# Altium schematic symbol library Brduino-Nano.SCHLIB: 29 symbols
Pins are listed as number, name and electrical type; pins without a type are passive.

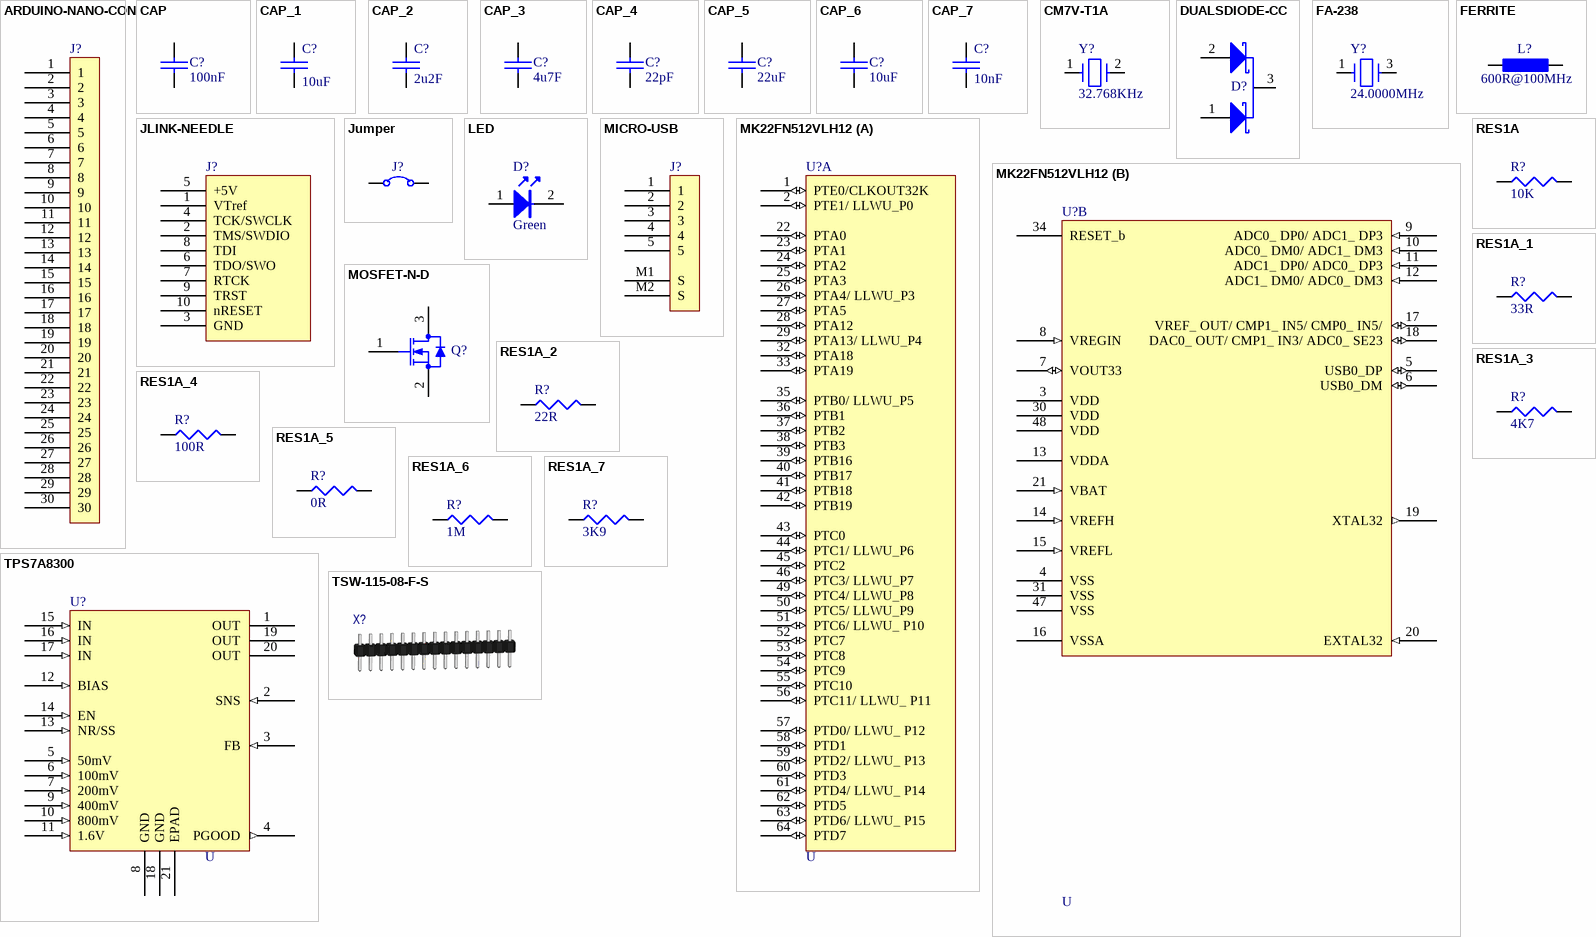
[diagram p0: symbols ARDUINO-NANO-CON to TSW-115-08-F-S]

## ARDUINO-NANO-CON
designator J?, comment X  (value not drawn)  (no BOM)
01. Distributor: DigiKey
footprint ARDUINO-NANO
pins: 1, 2, 3, 4, 5, 6, 7, 8, 9, 10, 11, 12, 13, 14, 15, 16, 17, 18, 19, 20, 21, 22, 23, 24, 25, 26, 27, 28, 29, 30

## CAP
designator C?, comment value 100nF  (hidden comment: C)
CAP CER 0.1UF 25V X7R 0402; 04. Manufacturer: Yageo; 05. Manufacturer PN: CC0402KRX7R8BB104; POPULATED: yes; Parameters: X7R, 25V, 10%; 03. Unit Price: 0.08; 01. Distributor: DigiKey; 02. distributor PN: 311-2077-6-ND
footprint C0603 (Chip Capacitor; Body 1.6x0.8mm (LxW typ), IPC High Density)
footprint C0805 (Chip Capacitor; Body 2.0x1.3mm (LxW typ), IPC High Density)
footprint C1206 (Chip Capacitor; Body 3.2x1.6mm (LxW typ), IPC High Density)
footprint C1210 (Chip Capacitor; Body 3.2x2.5mm (LxW typ), IPC High Density)
footprint C1812 (Chip Capacitor; Body 4.5x3.2mm (LxW typ), IPC High Density)
footprint C1825 (Chip Capacitor; Body 4.5x6.4mm (LxW typ), IPC High Density)
footprint C0402 (Chip Capacitor; Body 1.0x0.5mm (LxW typ), IPC High Density)
pins: 1, 2
2 alternate drawings of the same symbol

## CAP_1
designator C?, comment value 10uF  (hidden comment: C)
CAP CER 10UF 10V X7R 0805; 04. Manufacturer: Murata Electronics; 05. Manufacturer PN: GRM21BR71A106KA73L; POPULATED: yes; Parameters: X7R, 25V, 10%; 03. Unit Price: 0.21; 01. Distributor: DigiKey; 02. distributor PN: 490-10516-6-ND
footprint C0603 (Chip Capacitor; Body 1.6x0.8mm (LxW typ), IPC High Density)
footprint C0805 (Chip Capacitor; Body 2.0x1.3mm (LxW typ), IPC High Density)
footprint C1206 (Chip Capacitor; Body 3.2x1.6mm (LxW typ), IPC High Density)
footprint C1210 (Chip Capacitor; Body 3.2x2.5mm (LxW typ), IPC High Density)
footprint C1812 (Chip Capacitor; Body 4.5x3.2mm (LxW typ), IPC High Density)
footprint C1825 (Chip Capacitor; Body 4.5x6.4mm (LxW typ), IPC High Density)
footprint C0402 (Chip Capacitor; Body 1.0x0.5mm (LxW typ), IPC High Density)
pins: 1, 2
2 alternate drawings of the same symbol

## CAP_2
designator C?, comment value 2u2F  (hidden comment: C)
CAP CER 2.2UF 10V X5R 0603; 04. Manufacturer: Samsung Electro-Mechanics; 05. Manufacturer PN: CL10A225KP8NNNC; POPULATED: yes; Parameters: X7R, 25V, 10%; 03. Unit Price: 0.08; 01. Distributor: DigiKey; 02. distributor PN: 1276-1085-6-ND
footprint C0603 (Chip Capacitor; Body 1.6x0.8mm (LxW typ), IPC High Density)
footprint C0805 (Chip Capacitor; Body 2.0x1.3mm (LxW typ), IPC High Density)
footprint C1206 (Chip Capacitor; Body 3.2x1.6mm (LxW typ), IPC High Density)
footprint C1210 (Chip Capacitor; Body 3.2x2.5mm (LxW typ), IPC High Density)
footprint C1812 (Chip Capacitor; Body 4.5x3.2mm (LxW typ), IPC High Density)
footprint C1825 (Chip Capacitor; Body 4.5x6.4mm (LxW typ), IPC High Density)
footprint C0402 (Chip Capacitor; Body 1.0x0.5mm (LxW typ), IPC High Density)
pins: 1, 2
2 alternate drawings of the same symbol

## CAP_3
designator C?, comment value 4u7F  (hidden comment: C)
CAP CER 4.7UF 10V X7R 0805; 04. Manufacturer: Samsung Electro-Mechanics; 05. Manufacturer PN: CL21B475KPFNNNE; POPULATED: yes; Parameters: X7R, 25V, 10%; 03. Unit Price: 0.21; 01. Distributor: DigiKey; 02. distributor PN: 1276-2972-6-ND
footprint C0603 (Chip Capacitor; Body 1.6x0.8mm (LxW typ), IPC High Density)
footprint C0805 (Chip Capacitor; Body 2.0x1.3mm (LxW typ), IPC High Density)
footprint C1206 (Chip Capacitor; Body 3.2x1.6mm (LxW typ), IPC High Density)
footprint C1210 (Chip Capacitor; Body 3.2x2.5mm (LxW typ), IPC High Density)
footprint C1812 (Chip Capacitor; Body 4.5x3.2mm (LxW typ), IPC High Density)
footprint C1825 (Chip Capacitor; Body 4.5x6.4mm (LxW typ), IPC High Density)
footprint C0402 (Chip Capacitor; Body 1.0x0.5mm (LxW typ), IPC High Density)
pins: 1, 2
2 alternate drawings of the same symbol

## CAP_4
designator C?, comment value 22pF  (hidden comment: C)
CAP CER 22PF 16V C0G/NP0 0402; 04. Manufacturer: KEMET; 05. Manufacturer PN: C0402C220J4GACTU; POPULATED: yes; Parameters: X7R, 25V, 10%; 03. Unit Price: 0.08; 01. Distributor: DigiKey; 02. distributor PN: 399-8954-6-ND
footprint C0603 (Chip Capacitor; Body 1.6x0.8mm (LxW typ), IPC High Density)
footprint C0805 (Chip Capacitor; Body 2.0x1.3mm (LxW typ), IPC High Density)
footprint C1206 (Chip Capacitor; Body 3.2x1.6mm (LxW typ), IPC High Density)
footprint C1210 (Chip Capacitor; Body 3.2x2.5mm (LxW typ), IPC High Density)
footprint C1812 (Chip Capacitor; Body 4.5x3.2mm (LxW typ), IPC High Density)
footprint C1825 (Chip Capacitor; Body 4.5x6.4mm (LxW typ), IPC High Density)
footprint C0402 (Chip Capacitor; Body 1.0x0.5mm (LxW typ), IPC High Density)
pins: 1, 2
2 alternate drawings of the same symbol

## CAP_5
designator C?, comment value 22uF  (hidden comment: C)
CAP CER 22UF 10V X5R 0805; 04. Manufacturer: Murata Electronics; 05. Manufacturer PN: GRM21BR61A226ME44#; Parameters: X7R, 25V, 10%; POPULATED: yes; 03. Unit Price: 0.49; 01. Distributor: DigiKey; 02. distributor PN: 490-10746-6-ND
footprint C0603 (Chip Capacitor; Body 1.6x0.8mm (LxW typ), IPC High Density)
footprint C0805 (Chip Capacitor; Body 2.0x1.3mm (LxW typ), IPC High Density)
footprint C1206 (Chip Capacitor; Body 3.2x1.6mm (LxW typ), IPC High Density)
footprint C1210 (Chip Capacitor; Body 3.2x2.5mm (LxW typ), IPC High Density)
footprint C1812 (Chip Capacitor; Body 4.5x3.2mm (LxW typ), IPC High Density)
footprint C1825 (Chip Capacitor; Body 4.5x6.4mm (LxW typ), IPC High Density)
footprint C0402 (Chip Capacitor; Body 1.0x0.5mm (LxW typ), IPC High Density)
pins: 1, 2
2 alternate drawings of the same symbol

## CAP_6
designator C?, comment value 10uF  (hidden comment: C)
CAP CER 10UF 25V X5R 0805; 04. Manufacturer: Murata Electronics; 05. Manufacturer PN: GRM21BR61E106KA73L; Parameters: X7R, 25V, 10%; POPULATED: yes; 03. Unit Price: 0.37; 01. Distributor: DigiKey; 02. distributor PN: 490-5523-6-ND
footprint C0603 (Chip Capacitor; Body 1.6x0.8mm (LxW typ), IPC High Density)
footprint C0805 (Chip Capacitor; Body 2.0x1.3mm (LxW typ), IPC High Density)
footprint C1206 (Chip Capacitor; Body 3.2x1.6mm (LxW typ), IPC High Density)
footprint C1210 (Chip Capacitor; Body 3.2x2.5mm (LxW typ), IPC High Density)
footprint C1812 (Chip Capacitor; Body 4.5x3.2mm (LxW typ), IPC High Density)
footprint C1825 (Chip Capacitor; Body 4.5x6.4mm (LxW typ), IPC High Density)
footprint C0402 (Chip Capacitor; Body 1.0x0.5mm (LxW typ), IPC High Density)
pins: 1, 2
2 alternate drawings of the same symbol

## CAP_7
designator C?, comment value 10nF  (hidden comment: C)
CAP CER 10000PF 50V X7R 0402; 04. Manufacturer: Murata Electronics; 05. Manufacturer PN: GRM155R71H103KA88D; POPULATED: yes; Parameters: X7R, 25V, 10%; 03. Unit Price: 0.08; 01. Distributor: DigiKey; 02. distributor PN: 490-4516-6-ND
footprint C0603 (Chip Capacitor; Body 1.6x0.8mm (LxW typ), IPC High Density)
footprint C0805 (Chip Capacitor; Body 2.0x1.3mm (LxW typ), IPC High Density)
footprint C1206 (Chip Capacitor; Body 3.2x1.6mm (LxW typ), IPC High Density)
footprint C1210 (Chip Capacitor; Body 3.2x2.5mm (LxW typ), IPC High Density)
footprint C1812 (Chip Capacitor; Body 4.5x3.2mm (LxW typ), IPC High Density)
footprint C1825 (Chip Capacitor; Body 4.5x6.4mm (LxW typ), IPC High Density)
footprint C0402 (Chip Capacitor; Body 1.0x0.5mm (LxW typ), IPC High Density)
pins: 1, 2
2 alternate drawings of the same symbol

## CM7V-T1A
designator Y?, comment value 32.768KHz  (hidden comment: Y)
Crystals 32.768 kHz 9.0 pF +/-20 PPM; 04. Manufacturer: Micro Crystal; 05. Manufacturer PN: CM7V-T1A-32.768k-9pF-20PPM-TA-QA T3; POPULATED: yes; 03. Unit Price: 0.37; 01. Distributor: Mouser; 02. distributor PN: 428-201568-MG03
footprint CM7V-T1A
pins: 1, 2

## DUALSDIODE-CC
designator D?, comment D  (value not drawn)
DIODE ARRAY SCHOTTKY 30V SOT23-3; 04. Manufacturer: ONSEMI; 05. Manufacturer PN: BAT54C; POPULATED: yes; 03. Unit Price: 0.18; 01. Distributor: DigiKey; 02. distributor PN: BAT54CFSCT-ND
footprint SOT23
pins: 1 A, 2 K, 3 C

## FA-238
designator Y?, comment value 24.0000MHz  (hidden comment: Y)
CRYSTAL 24.0000MHZ 18PF SMD; 04. Manufacturer: EPSON; 05. Manufacturer PN: FA-238 24.0000MB-C3; Parameters: -20°C/+70°C, 50ppm, 18pF, 60ohms; POPULATED: yes; 03. Unit Price: 0.30; 01. Distributor: DigiKey; 02. distributor PN: SER3689DKR-ND
footprint FA-238
pins: 1, 3

## FERRITE
designator L?, comment value 600R@100MHz  (hidden comment: L)
FERRITE BEAD 600 OHM 0805 1LN; 04. Manufacturer: WUERTH; 05. Manufacturer PN: 742792040; Parameters: Idc=2A, Rdc=0.15R; POPULATED: yes; 03. Unit Price: 0.18; 01. Distributor: DigiKey; 02. distributor PN: 732-1620-6-ND
footprint L0805
pins: 1, 2

## JLINK-NEEDLE
designator J?, comment X  (value not drawn)  (no BOM)
01. Distributor: DigiKey
footprint JLINK-NEEDLE
pins: 1 VTref, 2 TMS/SWDIO, 3 GND, 4 TCK/SWCLK, 5 +5V, 6 TDO/SWO, 7 RTCK, 8 TDI, 9 TRST, 10 nRESET

## Jumper
designator J?, comment R  (value not drawn)
RES SMD 0 OHM JUMPER 1/10W 0603; 04. Manufacturer: Yageo; 05. Manufacturer PN: RC0603JR-070RL; POPULATED: yes; 03. Unit Price: 0.08; Value: 0R; 01. Distributor: DigiKey; 02. distributor PN: 311-0.0GRDKR-ND
footprint JumperSMD (Chip Resistor, Body 1.6x0.8mm (LxW typ), IPC High Density)
pins: 1, 2

## LED
designator D?, comment value Green  (hidden comment: D)
LED GREEN CLEAR 1608 SMD; 04. Manufacturer: KINGBRIGHT; 05. Manufacturer PN: APHD1608LCGCK; POPULATED: yes; Parameters: If >= 2mA; 03. Unit Price: 0.34; 01. Distributor: DigiKey; 02. distributor PN: 754-2031-6-ND
footprint SMD 0.8x0.8 (Footprint not found)
footprint LED0603
pins: 1 A, 2 K

## MICRO-USB
designator J?, comment X  (value not drawn)
CONN RCPT USB2.0 MINI AB 5P R/A; 04. Manufacturer: Molex; 05. Manufacturer PN: 0565790519; POPULATED: yes; 03. Unit Price: 2.04; 01. Distributor: DigiKey; 02. distributor PN: WM17121-ND
footprint Molex-0565790519
pins: 1, 2, 3, 4, 5, M1 S, M2 S

## MK22FN512VLH12
designator U?, comment U
IC MCU 32BIT 512KB FLASH 64LQFP; 04. Manufacturer: NXP USA Inc.; 05. Manufacturer PN: MK22FN512VLH12; POPULATED: yes; 03. Unit Price: 7.16; 01. Distributor: DigiKey; 02. distributor PN: MK22FN512VLH12-ND
footprint NXP-SOT1699-1 (Footprint not found)
part A pins: 1 PTE0/CLKOUT32K (io), 2 PTE1/ LLWU_P0 (io), 22 PTA0 (io), 23 PTA1 (io), 24 PTA2 (io), 25 PTA3 (io), 26 PTA4/ LLWU_P3 (io), 27 PTA5 (io), 28 PTA12 (io), 29 PTA13/ LLWU_P4 (io), 32 PTA18 (io), 33 PTA19 (io), 35 PTB0/ LLWU_P5 (io), 36 PTB1 (io), 37 PTB2 (io), 38 PTB3 (io), 39 PTB16 (io), 40 PTB17 (io), 41 PTB18 (io), 42 PTB19 (io), 43 PTC0 (io), 44 PTC1/ LLWU_P6 (io), 45 PTC2 (io), 46 PTC3/ LLWU_P7 (io), 49 PTC4/ LLWU_P8 (io), 50 PTC5/ LLWU_P9 (io), 51 PTC6/ LLWU_ P10 (io), 52 PTC7 (io), 53 PTC8 (io), 54 PTC9 (io), 55 PTC10 (io), 56 PTC11/ LLWU_ P11 (io), 57 PTD0/ LLWU_ P12 (io), 58 PTD1 (io), 59 PTD2/ LLWU_ P13 (io), 60 PTD3 (io), 61 PTD4/ LLWU_ P14 (io), 62 PTD5 (io), 63 PTD6/ LLWU_ P15 (io), 64 PTD7 (io)
part B pins: 3 VDD (power), 4 VSS (power), 5 USB0_DP (io), 6 USB0_DM (io), 7 VOUT33 (io), 8 VREGIN (in), 9 ADC0_ DP0/ ADC1_ DP3 (in), 10 ADC0_ DM0/ ADC1_ DM3 (in), 11 ADC1_ DP0/ ADC0_ DP3 (in), 12 ADC1_ DM0/ ADC0_ DM3 (in), 13 VDDA (power), 14 VREFH (in), 15 VREFL (in), 16 VSSA (power), 17 VREF_ OUT/ CMP1_ IN5/ CMP0_ IN5/ (io), 18 DAC0_ OUT/ CMP1_ IN3/ ADC0_ SE23 (io), 19 XTAL32 (out), 20 EXTAL32 (in), 21 VBAT (in), 30 VDD (power), 31 VSS (power), 34 RESET_b (power), 47 VSS (power), 48 VDD (power)

## MOSFET-N-D
designator Q?, comment Q  (value not drawn)
MOSFET N-CHANNEL 30V 1A SC70; 04. Manufacturer: NEXPERIA; 05. Manufacturer PN: PMF250XNEX; POPULATED: yes; 03. Unit Price: 0.31; 01. Distributor: DigiKey; 02. distributor PN: 1727-2693-6-ND
footprint SOT323
pins: 1 G, 2 S, 3 D

## RES1A
designator R?, comment value 10K  (hidden comment: R)
RES SMD 10K OHM 1% 1/16W 0402; 04. Manufacturer: Yageo; 05. Manufacturer PN: RC0402FR-0710KL; POPULATED: yes; Parameters: 1/16W, 50V, 1%; 03. Unit Price: 0.08; 01. Distributor: DigiKey; 02. distributor PN: 311-10.0KLRDKR-ND
footprint R0402 (Chip Resistor, Body 1.1x0.5mm (LxW typ), IPC High Density)
footprint R0603 (Chip Resistor, Body 1.6x0.8mm (LxW typ), IPC High Density)
footprint R0805 (Chip Resistor, Body 2.0x1.3mm (LxW typ), IPC High Density)
footprint R1206 (Chip Resistor, Body 3.2x1.6mm (LxW typ), IPC High Density)
footprint R1210 (Chip Resistor, Body 3.2x2.5mm (LxW typ), IPC High Density)
footprint R2010 (Chip Resistor, Body 5.0x2.5mm (LxW typ), IPC High Density)
footprint R2512 (Chip Resistor, Body 6.3x3.2mm (LxW typ), IPC High Density)
footprint R0402 (Chip Resistor, Body 1.1x0.5mm (LxW typ), IPC High Density)
pins: 1, 2

## RES1A_1
designator R?, comment value 33R  (hidden comment: R)
RES SMD 33 OHM 1% 1/16W 0402; 04. Manufacturer: Yageo; 05. Manufacturer PN: RC0402FR-0733RL; POPULATED: yes; Parameters: 1/16W, 50V, 1%; 03. Unit Price: 0.08; 01. Distributor: DigiKey; 02. distributor PN: 311-33.0LRDKR-ND
footprint R0402 (Chip Resistor, Body 1.1x0.5mm (LxW typ), IPC High Density)
footprint R0603 (Chip Resistor, Body 1.6x0.8mm (LxW typ), IPC High Density)
footprint R0805 (Chip Resistor, Body 2.0x1.3mm (LxW typ), IPC High Density)
footprint R1206 (Chip Resistor, Body 3.2x1.6mm (LxW typ), IPC High Density)
footprint R1210 (Chip Resistor, Body 3.2x2.5mm (LxW typ), IPC High Density)
footprint R2010 (Chip Resistor, Body 5.0x2.5mm (LxW typ), IPC High Density)
footprint R2512 (Chip Resistor, Body 6.3x3.2mm (LxW typ), IPC High Density)
footprint R0402 (Chip Resistor, Body 1.1x0.5mm (LxW typ), IPC High Density)
pins: 1, 2

## RES1A_2
designator R?, comment value 22R  (hidden comment: R)
RES SMD 22 OHM 1% 1/16W 0402; 04. Manufacturer: Yageo; 05. Manufacturer PN: RC0402FR-0722RL; POPULATED: yes; Parameters: 1/16W, 50V, 1%; 03. Unit Price: 0.08; 01. Distributor: DigiKey; 02. distributor PN: 311-22.0LRDKR-ND
footprint R0402 (Chip Resistor, Body 1.1x0.5mm (LxW typ), IPC High Density)
footprint R0603 (Chip Resistor, Body 1.6x0.8mm (LxW typ), IPC High Density)
footprint R0805 (Chip Resistor, Body 2.0x1.3mm (LxW typ), IPC High Density)
footprint R1206 (Chip Resistor, Body 3.2x1.6mm (LxW typ), IPC High Density)
footprint R1210 (Chip Resistor, Body 3.2x2.5mm (LxW typ), IPC High Density)
footprint R2010 (Chip Resistor, Body 5.0x2.5mm (LxW typ), IPC High Density)
footprint R2512 (Chip Resistor, Body 6.3x3.2mm (LxW typ), IPC High Density)
footprint R0402 (Chip Resistor, Body 1.1x0.5mm (LxW typ), IPC High Density)
pins: 1, 2

## RES1A_3
designator R?, comment value 4K7  (hidden comment: R)
RES SMD 4.7K OHM 1% 1/16W 0402; 04. Manufacturer: Yageo; 05. Manufacturer PN: RC0402FR-074K7L; POPULATED: yes; Parameters: 1/16W, 50V, 1%; 03. Unit Price: 0.08; 01. Distributor: DigiKey; 02. distributor PN: 311-4.7KLRDKR-ND
footprint R0402 (Chip Resistor, Body 1.1x0.5mm (LxW typ), IPC High Density)
footprint R0603 (Chip Resistor, Body 1.6x0.8mm (LxW typ), IPC High Density)
footprint R0805 (Chip Resistor, Body 2.0x1.3mm (LxW typ), IPC High Density)
footprint R1206 (Chip Resistor, Body 3.2x1.6mm (LxW typ), IPC High Density)
footprint R1210 (Chip Resistor, Body 3.2x2.5mm (LxW typ), IPC High Density)
footprint R2010 (Chip Resistor, Body 5.0x2.5mm (LxW typ), IPC High Density)
footprint R2512 (Chip Resistor, Body 6.3x3.2mm (LxW typ), IPC High Density)
footprint R0402 (Chip Resistor, Body 1.1x0.5mm (LxW typ), IPC High Density)
pins: 1, 2

## RES1A_4
designator R?, comment value 100R  (hidden comment: R)
RES SMD 100 OHM 1% 1/16W 0402; 04. Manufacturer: Yageo; 05. Manufacturer PN: RC0402FR-07100RL; POPULATED: yes; Parameters: 1/16W, 50V, 1%; 03. Unit Price: 0.08; 01. Distributor: DigiKey; 02. distributor PN: 311-100LRDKR-ND
footprint R0402 (Chip Resistor, Body 1.1x0.5mm (LxW typ), IPC High Density)
footprint R0603 (Chip Resistor, Body 1.6x0.8mm (LxW typ), IPC High Density)
footprint R0805 (Chip Resistor, Body 2.0x1.3mm (LxW typ), IPC High Density)
footprint R1206 (Chip Resistor, Body 3.2x1.6mm (LxW typ), IPC High Density)
footprint R1210 (Chip Resistor, Body 3.2x2.5mm (LxW typ), IPC High Density)
footprint R2010 (Chip Resistor, Body 5.0x2.5mm (LxW typ), IPC High Density)
footprint R2512 (Chip Resistor, Body 6.3x3.2mm (LxW typ), IPC High Density)
footprint R0402 (Chip Resistor, Body 1.1x0.5mm (LxW typ), IPC High Density)
pins: 1, 2

## RES1A_5
designator R?, comment value 0R  (hidden comment: R)
RES SMD 0 OHM JUMPER 1/16W 0402; 04. Manufacturer: Yageo; 05. Manufacturer PN: RC0402JR-070RL; POPULATED: yes; Parameters: 1/16W, 50V, 1%; 03. Unit Price: 0.08; 01. Distributor: DigiKey; 02. distributor PN: 311-0.0JRDKR-ND
footprint R0402 (Chip Resistor, Body 1.1x0.5mm (LxW typ), IPC High Density)
footprint R0603 (Chip Resistor, Body 1.6x0.8mm (LxW typ), IPC High Density)
footprint R0805 (Chip Resistor, Body 2.0x1.3mm (LxW typ), IPC High Density)
footprint R1206 (Chip Resistor, Body 3.2x1.6mm (LxW typ), IPC High Density)
footprint R1210 (Chip Resistor, Body 3.2x2.5mm (LxW typ), IPC High Density)
footprint R2010 (Chip Resistor, Body 5.0x2.5mm (LxW typ), IPC High Density)
footprint R2512 (Chip Resistor, Body 6.3x3.2mm (LxW typ), IPC High Density)
footprint R0402 (Chip Resistor, Body 1.1x0.5mm (LxW typ), IPC High Density)
pins: 1, 2

## RES1A_6
designator R?, comment value 1M  (hidden comment: R)
RES SMD 1M OHM 1% 1/16W 0402; 04. Manufacturer: Yageo; 05. Manufacturer PN: RC0402FR-071ML; POPULATED: yes; Parameters: 1/16W, 50V, 1%; 03. Unit Price: 0.08; 01. Distributor: DigiKey; 02. distributor PN: 311-1.00MLRDKR-ND
footprint R0402 (Chip Resistor, Body 1.1x0.5mm (LxW typ), IPC High Density)
footprint R0603 (Chip Resistor, Body 1.6x0.8mm (LxW typ), IPC High Density)
footprint R0805 (Chip Resistor, Body 2.0x1.3mm (LxW typ), IPC High Density)
footprint R1206 (Chip Resistor, Body 3.2x1.6mm (LxW typ), IPC High Density)
footprint R1210 (Chip Resistor, Body 3.2x2.5mm (LxW typ), IPC High Density)
footprint R2010 (Chip Resistor, Body 5.0x2.5mm (LxW typ), IPC High Density)
footprint R2512 (Chip Resistor, Body 6.3x3.2mm (LxW typ), IPC High Density)
footprint R0402 (Chip Resistor, Body 1.1x0.5mm (LxW typ), IPC High Density)
pins: 1, 2

## RES1A_7
designator R?, comment value 3K9  (hidden comment: R)
RES SMD 3.9K OHM 1% 1/16W 0402; 04. Manufacturer: Yageo; 05. Manufacturer PN: RC0402FR-073K9L; POPULATED: yes; Parameters: 1/16W, 50V, 1%; 03. Unit Price: 0.08; 01. Distributor: DigiKey; 02. distributor PN: 311-3.90KLRDKR-ND
footprint R0402 (Chip Resistor, Body 1.1x0.5mm (LxW typ), IPC High Density)
footprint R0603 (Chip Resistor, Body 1.6x0.8mm (LxW typ), IPC High Density)
footprint R0805 (Chip Resistor, Body 2.0x1.3mm (LxW typ), IPC High Density)
footprint R1206 (Chip Resistor, Body 3.2x1.6mm (LxW typ), IPC High Density)
footprint R1210 (Chip Resistor, Body 3.2x2.5mm (LxW typ), IPC High Density)
footprint R2010 (Chip Resistor, Body 5.0x2.5mm (LxW typ), IPC High Density)
footprint R2512 (Chip Resistor, Body 6.3x3.2mm (LxW typ), IPC High Density)
footprint R0402 (Chip Resistor, Body 1.1x0.5mm (LxW typ), IPC High Density)
pins: 1, 2

## TPS7A8300
designator U?, comment U
IC REG LINEAR POS ADJ 2A 20VQFN; 04. Manufacturer: Texas Instruments; 05. Manufacturer PN: TPS7A8300RGWT; POPULATED: yes; 03. Unit Price: 4.57; 01. Distributor: DigiKey; 02. distributor PN: 296-36510-6-ND
footprint S-PVQFN-N20 ((RGW) QFN 5mmx5mm, RM 0.65mm)
pins: 1 OUT (hiz), 2 SNS (in), 3 FB (in), 4 PGOOD (out), 5 50mV (in), 6 100mV (in), 7 200mV (in), 8 GND (power), 9 400mV (in), 10 800mV (in), 11 1.6V (in), 12 BIAS (in), 13 NR/SS (in), 14 EN (in), 15 IN (in), 16 IN (in), 17 IN (in), 18 GND (power), 19 OUT (hiz), 20 OUT (hiz), 21 EPAD

## TSW-115-08-F-S
designator X?, comment X  (value not drawn)  (mechanical)
CONN HEADER VERT 15POS 2.54MM; 04. Manufacturer: Samtec Inc.; 05. Manufacturer PN: HTSW-115-08-F-S; 03. Unit Price: 1.03; POPULATED: yes; 01. Distributor: DigiKey; 02. distributor PN: HTSW-115-08-F-S-ND